# Altium schematic symbol library Regulator_Linear.SchLib: 1620 symbols (part 2 of 16)
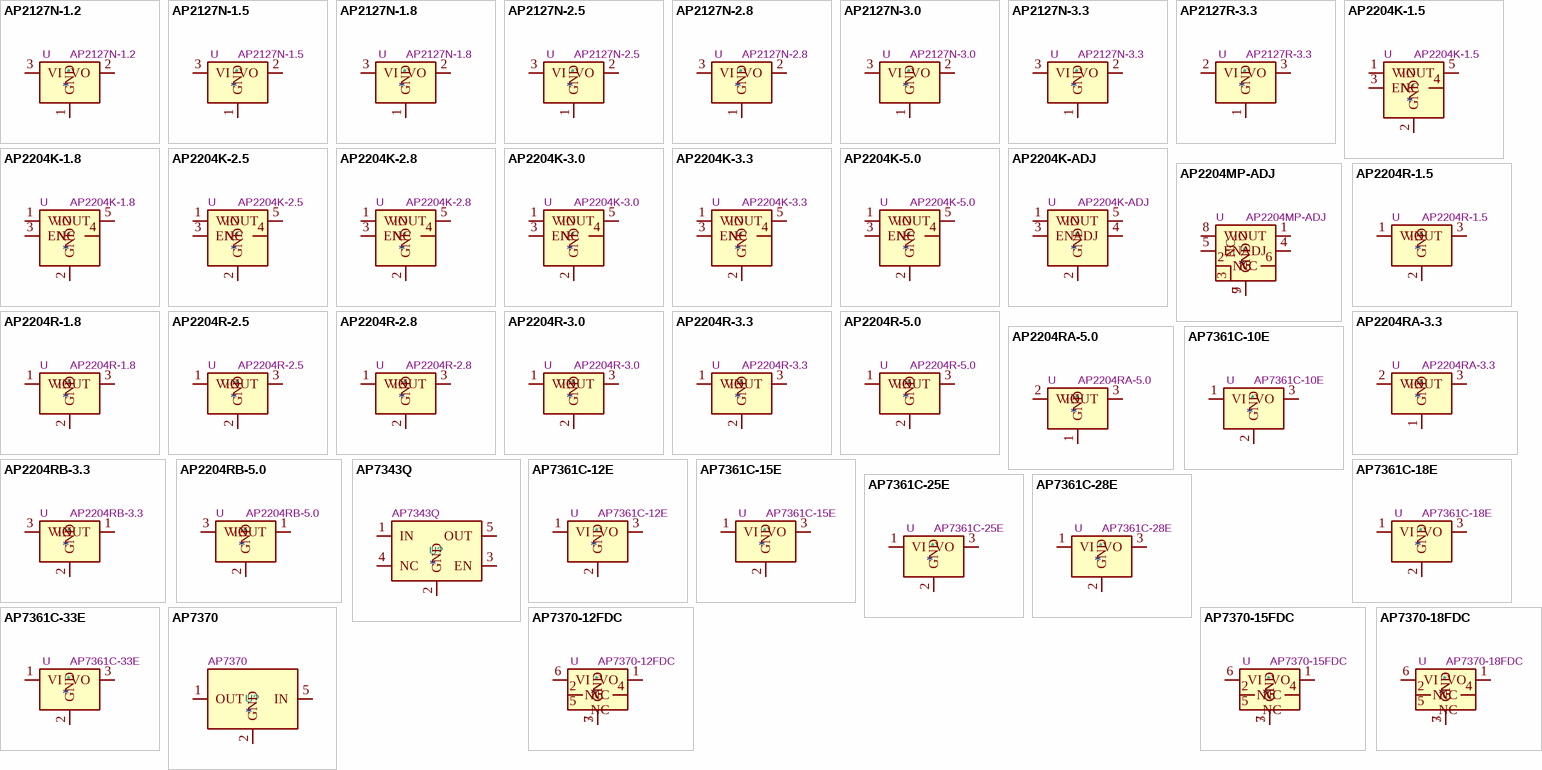
[diagram p41: symbols AP2127N-1.2 to AP7370-18FDC]

## AP2204R-5.0
designator *  value AP2204R-5.0  Reference: U
150mA low dropout linear regulator, wide input voltage range, 5.0V fixed positive output, SOT-89-3 package; ki_keywords: linear regulator ldo fixed positive; ki_fp_filters: SOT?89*; Footprint: Package_TO_SOT_SMD:SOT-89-3; Datasheet: https://www.diodes.com/assets/Datasheets/products_inactive_data/AP2204.pdf; Description_: 150mA low dropout linear regulator, wide input voltage range, 5.0V fixed positive output, SOT-89-3 package
pins: 1 VIN, 2 GND, 3 VOUT

## AP2204RA-3.3
designator *  value AP2204RA-3.3  Reference: U
150mA low dropout linear regulator, wide input voltage range, 3.3V fixed positive output, SOT-89-3 package; ki_keywords: linear regulator ldo fixed positive; ki_fp_filters: SOT?89*; Footprint: Package_TO_SOT_SMD:SOT-89-3; Datasheet: https://www.diodes.com/assets/Datasheets/products_inactive_data/AP2204.pdf; Description_: 150mA low dropout linear regulator, wide input voltage range, 3.3V fixed positive output, SOT-89-3 package
pins: 1 GND, 2 VIN, 3 VOUT

## AP2204RA-5.0
designator *  value AP2204RA-5.0  Reference: U
150mA low dropout linear regulator, wide input voltage range, 5.0V fixed positive output, SOT-89-3 package; ki_keywords: linear regulator ldo fixed positive; ki_fp_filters: SOT?89*; Footprint: Package_TO_SOT_SMD:SOT-89-3; Datasheet: https://www.diodes.com/assets/Datasheets/products_inactive_data/AP2204.pdf; Description_: 150mA low dropout linear regulator, wide input voltage range, 5.0V fixed positive output, SOT-89-3 package
pins: 1 GND, 2 VIN, 3 VOUT

## AP2204RB-3.3
designator *  value AP2204RB-3.3  Reference: U
150mA low dropout linear regulator, wide input voltage range, 3.3V fixed positive output, SOT-89-3 package; ki_keywords: linear regulator ldo fixed positive; ki_fp_filters: SOT?89*; Footprint: Package_TO_SOT_SMD:SOT-89-3; Datasheet: https://www.diodes.com/assets/Datasheets/products_inactive_data/AP2204.pdf; Description_: 150mA low dropout linear regulator, wide input voltage range, 3.3V fixed positive output, SOT-89-3 package
pins: 1 VOUT, 2 GND, 3 VIN

## AP2204RB-5.0
designator *  value AP2204RB-5.0  Reference: U
150mA low dropout linear regulator, wide input voltage range, 5.0V fixed positive output, SOT-89-3 package; ki_keywords: linear regulator ldo fixed positive; ki_fp_filters: SOT?89*; Footprint: Package_TO_SOT_SMD:SOT-89-3; Datasheet: https://www.diodes.com/assets/Datasheets/products_inactive_data/AP2204.pdf; Description_: 150mA low dropout linear regulator, wide input voltage range, 5.0V fixed positive output, SOT-89-3 package
pins: 1 VOUT, 2 GND, 3 VIN

## AP7343Q
designator U?  value AP7343Q
AUTOMOTIVE COMPLIANT 300mA HIGH PSRR LOW NOISE LDO WITH ENABL; Manufacturer: Diodes Inc.; Manufacturer Part Number: AP7343DQ-33W5-7; Description_: Current limited power switch, single channel, SOT-23-5; ki_keywords: Limit USB Active High; ki_fp_filters: SOT?23*; Reference: U; Max Supply Voltage: 5.25V; Max Junction Temperature (Tj): 125°C; Min Input Voltage: 4.3V; Number of Channels: 1; Output Voltage: 3.3V; Voltage Tolerance: 1%; Footprint: Package_TO_SOT_SMD:SOT-23-5; Datasheet: https://www.diodes.com/assets/Datasheets/AP2161.pdf; Category: LDO Voltage Regulators; China RoHS: Compliant; Height - Seated (Max): 1.15mm; Length: 3mm; Lifecycle Status: Production; Number of Circuits: 1; Number of Outputs: 1; Number of Terminals: 5; REACH SVHC: Yes; RoHS: Compliant; Terminal Pitch: 950µm; Width: 1.6mm; Supplier 1: Mouser; Supplier Part Number 1: 621-AP7343DQ-33W5-7; Supplier Packaging 1: Tape & Reel; Supplier Unit Price 1: $0.20; Supplier Location 1: US
footprint SOT-23-5
pins: 1 IN (power), 2 GND, 3 EN, 4 NC, 5 OUT

## AP7361C-10E
designator *  value AP7361C-10E  Reference: U
1A Low Dropout regulator, positive, 1.0V fixed output, SOT-223; ki_keywords: linear regulator ldo fixed positive; ki_fp_filters: SOT?223*; Footprint: Package_TO_SOT_SMD:SOT-223-3_TabPin2; Datasheet: https://www.diodes.com/assets/Datasheets/AP7361C.pdf; Description_: 1A Low Dropout regulator, positive, 1.0V fixed output, SOT-223
pins: 1 VI, 2 GND, 3 VO

## AP7361C-12E
designator *  value AP7361C-12E  Reference: U
1A Low Dropout regulator, positive, 1.2V fixed output, SOT-223; ki_keywords: linear regulator ldo fixed positive; ki_fp_filters: SOT?223*; Footprint: Package_TO_SOT_SMD:SOT-223-3_TabPin2; Datasheet: https://www.diodes.com/assets/Datasheets/AP7361C.pdf; Description_: 1A Low Dropout regulator, positive, 1.2V fixed output, SOT-223
pins: 1 VI, 2 GND, 3 VO

## AP7361C-15E
designator *  value AP7361C-15E  Reference: U
1A Low Dropout regulator, positive, 1.5V fixed output, SOT-223; ki_keywords: linear regulator ldo fixed positive; ki_fp_filters: SOT?223*; Footprint: Package_TO_SOT_SMD:SOT-223-3_TabPin2; Datasheet: https://www.diodes.com/assets/Datasheets/AP7361C.pdf; Description_: 1A Low Dropout regulator, positive, 1.5V fixed output, SOT-223
pins: 1 VI, 2 GND, 3 VO

## AP7361C-18E
designator *  value AP7361C-18E  Reference: U
1A Low Dropout regulator, positive, 1.8V fixed output, SOT-223; ki_keywords: linear regulator ldo fixed positive; ki_fp_filters: SOT?223*; Footprint: Package_TO_SOT_SMD:SOT-223-3_TabPin2; Datasheet: https://www.diodes.com/assets/Datasheets/AP7361C.pdf; Description_: 1A Low Dropout regulator, positive, 1.8V fixed output, SOT-223
pins: 1 VI, 2 GND, 3 VO

## AP7361C-25E
designator *  value AP7361C-25E  Reference: U
1A Low Dropout regulator, positive, 2.5V fixed output, SOT-223; ki_keywords: linear regulator ldo fixed positive; ki_fp_filters: SOT?223*; Footprint: Package_TO_SOT_SMD:SOT-223-3_TabPin2; Datasheet: https://www.diodes.com/assets/Datasheets/AP7361C.pdf; Description_: 1A Low Dropout regulator, positive, 2.5V fixed output, SOT-223
pins: 1 VI, 2 GND, 3 VO

## AP7361C-28E
designator *  value AP7361C-28E  Reference: U
1A Low Dropout regulator, positive, 2.8V fixed output, SOT-223; ki_keywords: linear regulator ldo fixed positive; ki_fp_filters: SOT?223*; Footprint: Package_TO_SOT_SMD:SOT-223-3_TabPin2; Datasheet: https://www.diodes.com/assets/Datasheets/AP7361C.pdf; Description_: 1A Low Dropout regulator, positive, 2.8V fixed output, SOT-223
pins: 1 VI, 2 GND, 3 VO

## AP7361C-33E
designator *  value AP7361C-33E  Reference: U
1A Low Dropout regulator, positive, 3.3V fixed output, SOT-223; ki_keywords: linear regulator ldo fixed positive; ki_fp_filters: SOT?223*; Footprint: Package_TO_SOT_SMD:SOT-223-3_TabPin2; Datasheet: https://www.diodes.com/assets/Datasheets/AP7361C.pdf; Description_: 1A Low Dropout regulator, positive, 3.3V fixed output, SOT-223
pins: 1 VI, 2 GND, 3 VO

## AP7370
designator U?  value AP7370
Fixed LDO Voltage Regulator, 3.2V to 18V in, 500mV Drop, 3.3V out, 300mA out, SOT-89-3; Manufacturer: Diodes Inc.; Manufacturer Part Number: AP7370-33Y-13-EVM; Description_: Current limited power switch, single channel, SOT-23-5; ki_keywords: Limit USB Active High; ki_fp_filters: SOT?23*; Reference: U; Footprint: Package_TO_SOT_SMD:SOT-23-5; Datasheet: https://www.diodes.com/assets/Datasheets/AP2161.pdf; Category: Uncategorized; Supplier 1: Mouser; Supplier Part Number 1: 621-AP737033Y13EVM; Supplier Unit Price 1: $57.49; Supplier Location 1: US
footprint SOT-89-3
pins: 1 OUT, 2 GND, 5 IN

## AP7370-12FDC
designator *  value AP7370-12FDC  Reference: U
200mA Low-Dropout Linear Regulator, 1.2V fixed output, DFN-6; ki_keywords: linear regulator ldo fixed positive; ki_fp_filters: DFN*2x2mm*P0.65mm*; Footprint: Package_DFN_QFN:DFN-6-1EP_2x2mm_P0.65mm_EP1.01x1.7mm; Datasheet: https://www.diodes.com/assets/Datasheets/AP7370.pdf; Description_: 200mA Low-Dropout Linear Regulator, 1.2V fixed output, DFN-6
pins: 1 VO, 2 NC, 3 GND, 4 NC, 5 NC, 6 VI, 7 GND

## AP7370-15FDC
designator *  value AP7370-15FDC  Reference: U
200mA Low-Dropout Linear Regulator, 1.5V fixed output, DFN-6; ki_keywords: linear regulator ldo fixed positive; ki_fp_filters: DFN*2x2mm*P0.65mm*; Footprint: Package_DFN_QFN:DFN-6-1EP_2x2mm_P0.65mm_EP1.01x1.7mm; Datasheet: https://www.diodes.com/assets/Datasheets/AP7370.pdf; Description_: 200mA Low-Dropout Linear Regulator, 1.5V fixed output, DFN-6
pins: 1 VO, 2 NC, 3 GND, 4 NC, 5 NC, 6 VI, 7 GND

## AP7370-18FDC
designator *  value AP7370-18FDC  Reference: U
200mA Low-Dropout Linear Regulator, 1.8V fixed output, DFN-6; ki_keywords: linear regulator ldo fixed positive; ki_fp_filters: DFN*2x2mm*P0.65mm*; Footprint: Package_DFN_QFN:DFN-6-1EP_2x2mm_P0.65mm_EP1.01x1.7mm; Datasheet: https://www.diodes.com/assets/Datasheets/AP7370.pdf; Description_: 200mA Low-Dropout Linear Regulator, 1.8V fixed output, DFN-6
pins: 1 VO, 2 NC, 3 GND, 4 NC, 5 NC, 6 VI, 7 GND

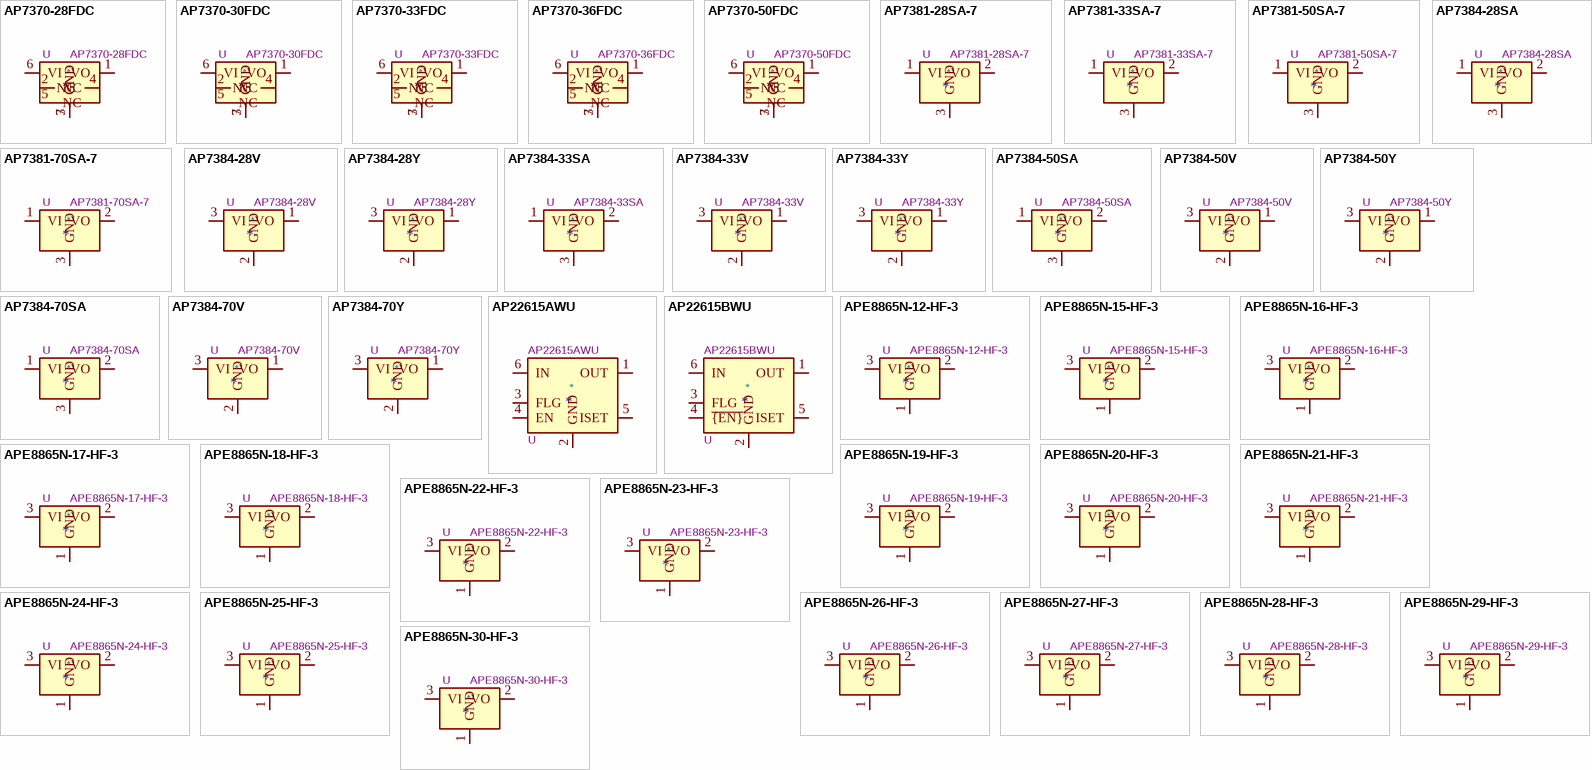
[diagram p3: symbols AP7370-28FDC to APE8865N-30-HF-3]

## AP7370-28FDC
designator *  value AP7370-28FDC  Reference: U
350mA Low-Dropout Linear Regulator, 2.8V fixed output, DFN-6; ki_keywords: linear regulator ldo fixed positive; ki_fp_filters: DFN*2x2mm*P0.65mm*; Footprint: Package_DFN_QFN:DFN-6-1EP_2x2mm_P0.65mm_EP1.01x1.7mm; Datasheet: https://www.diodes.com/assets/Datasheets/AP7370.pdf; Description_: 350mA Low-Dropout Linear Regulator, 2.8V fixed output, DFN-6
pins: 1 VO, 2 NC, 3 GND, 4 NC, 5 NC, 6 VI, 7 GND

## AP7370-30FDC
designator *  value AP7370-30FDC  Reference: U
350mA Low-Dropout Linear Regulator, 3.0V fixed output, DFN-6; ki_keywords: linear regulator ldo fixed positive; ki_fp_filters: DFN*2x2mm*P0.65mm*; Footprint: Package_DFN_QFN:DFN-6-1EP_2x2mm_P0.65mm_EP1.01x1.7mm; Datasheet: https://www.diodes.com/assets/Datasheets/AP7370.pdf; Description_: 350mA Low-Dropout Linear Regulator, 3.0V fixed output, DFN-6
pins: 1 VO, 2 NC, 3 GND, 4 NC, 5 NC, 6 VI, 7 GND

## AP7370-33FDC
designator *  value AP7370-33FDC  Reference: U
350mA Low-Dropout Linear Regulator, 3.3V fixed output, DFN-6; ki_keywords: linear regulator ldo fixed positive; ki_fp_filters: DFN*2x2mm*P0.65mm*; Footprint: Package_DFN_QFN:DFN-6-1EP_2x2mm_P0.65mm_EP1.01x1.7mm; Datasheet: https://www.diodes.com/assets/Datasheets/AP7370.pdf; Description_: 350mA Low-Dropout Linear Regulator, 3.3V fixed output, DFN-6
pins: 1 VO, 2 NC, 3 GND, 4 NC, 5 NC, 6 VI, 7 GND

## AP7370-36FDC
designator *  value AP7370-36FDC  Reference: U
350mA Low-Dropout Linear Regulator, 3.6V fixed output, DFN-6; ki_keywords: linear regulator ldo fixed positive; ki_fp_filters: DFN*2x2mm*P0.65mm*; Footprint: Package_DFN_QFN:DFN-6-1EP_2x2mm_P0.65mm_EP1.01x1.7mm; Datasheet: https://www.diodes.com/assets/Datasheets/AP7370.pdf; Description_: 350mA Low-Dropout Linear Regulator, 3.6V fixed output, DFN-6
pins: 1 VO, 2 NC, 3 GND, 4 NC, 5 NC, 6 VI, 7 GND

## AP7370-50FDC
designator *  value AP7370-50FDC  Reference: U
350mA Low-Dropout Linear Regulator, 5.0V fixed output, DFN-6; ki_keywords: linear regulator ldo fixed positive; ki_fp_filters: DFN*2x2mm*P0.65mm*; Footprint: Package_DFN_QFN:DFN-6-1EP_2x2mm_P0.65mm_EP1.01x1.7mm; Datasheet: https://www.diodes.com/assets/Datasheets/AP7370.pdf; Description_: 350mA Low-Dropout Linear Regulator, 5.0V fixed output, DFN-6
pins: 1 VO, 2 NC, 3 GND, 4 NC, 5 NC, 6 VI, 7 GND

## AP7381-28SA-7
designator *  value AP7381-28SA-7  Reference: U
150mA Low Dropout Voltage Regulator, Fixed Output 2.8V, Wide Input Voltage Range 40V, SOT-23; ki_keywords: Diodes ldo nrnd; ki_fp_filters: SOT?23*; Footprint: Package_TO_SOT_SMD:SOT-23; Datasheet: https://www.diodes.com/assets/Datasheets/AP7381.pdf; Description_: 150mA Low Dropout Voltage Regulator, Fixed Output 2.8V, Wide Input Voltage Range 40V, SOT-23
pins: 1 VI, 2 VO, 3 GND

## AP7381-33SA-7
designator *  value AP7381-33SA-7  Reference: U
150mA Low Dropout Voltage Regulator, Fixed Output 3.3V, Wide Input Voltage Range 40V, SOT-23; ki_keywords: Diodes ldo; ki_fp_filters: SOT?23*; Footprint: Package_TO_SOT_SMD:SOT-23; Datasheet: https://www.diodes.com/assets/Datasheets/AP7381.pdf; Description_: 150mA Low Dropout Voltage Regulator, Fixed Output 3.3V, Wide Input Voltage Range 40V, SOT-23
pins: 1 VI, 2 VO, 3 GND

## AP7381-50SA-7
designator *  value AP7381-50SA-7  Reference: U
150mA Low Dropout Voltage Regulator, Fixed Output 5.0V, Wide Input Voltage Range 40V, SOT-23; ki_keywords: Diodes ldo; ki_fp_filters: SOT?23*; Footprint: Package_TO_SOT_SMD:SOT-23; Datasheet: https://www.diodes.com/assets/Datasheets/AP7381.pdf; Description_: 150mA Low Dropout Voltage Regulator, Fixed Output 5.0V, Wide Input Voltage Range 40V, SOT-23
pins: 1 VI, 2 VO, 3 GND

## AP7381-70SA-7
designator *  value AP7381-70SA-7  Reference: U
150mA Low Dropout Voltage Regulator, Fixed Output 7.0V, Wide Input Voltage Range 40V, SOT-23; ki_keywords: Diodes ldo nrnd; ki_fp_filters: SOT?23*; Footprint: Package_TO_SOT_SMD:SOT-23; Datasheet: https://www.diodes.com/assets/Datasheets/AP7381.pdf; Description_: 150mA Low Dropout Voltage Regulator, Fixed Output 7.0V, Wide Input Voltage Range 40V, SOT-23
pins: 1 VI, 2 VO, 3 GND

## AP7384-28SA
designator *  value AP7384-28SA  Reference: U
50mA Low Dropout Voltage Regulator, Fixed Output 2.8V, Wide Input Voltage Range 40V, SOT-23; ki_keywords: 50mA LDO Regulator Fixed Positive; ki_fp_filters: SOT?23*; Footprint: Package_TO_SOT_SMD:SOT-23; Datasheet: https://www.diodes.com/assets/Datasheets/AP7384.pdf; Description_: 50mA Low Dropout Voltage Regulator, Fixed Output 2.8V, Wide Input Voltage Range 40V, SOT-23
pins: 1 VI, 2 VO, 3 GND

## AP7384-28V
designator *  value AP7384-28V  Reference: U
50mA Low Dropout Voltage Regulator, Fixed Output 2.8V, Wide Input Voltage Range 40V, TO-92; ki_keywords: 50mA LDO Regulator Fixed Positive; ki_fp_filters: TO?92*; Footprint: Package_TO_SOT_THT:TO-92_Inline_Wide; Datasheet: https://www.diodes.com/assets/Datasheets/AP7384.pdf; Description_: 50mA Low Dropout Voltage Regulator, Fixed Output 2.8V, Wide Input Voltage Range 40V, TO-92
pins: 1 VO, 2 GND, 3 VI

## AP7384-28Y
designator *  value AP7384-28Y  Reference: U
50mA Low Dropout Voltage Regulator, Fixed Output 2.8V, Wide Input Voltage Range 40V, SOT-89-3; ki_keywords: 50mA LDO Regulator Fixed Positive; ki_fp_filters: SOT?89?3*; Footprint: Package_TO_SOT_SMD:SOT-89-3; Datasheet: https://www.diodes.com/assets/Datasheets/AP7384.pdf; Description_: 50mA Low Dropout Voltage Regulator, Fixed Output 2.8V, Wide Input Voltage Range 40V, SOT-89-3
pins: 1 VO, 2 GND, 3 VI

## AP7384-33SA
designator *  value AP7384-33SA  Reference: U
50mA Low Dropout Voltage Regulator, Fixed Output 3.3V, Wide Input Voltage Range 40V, SOT-23; ki_keywords: 50mA LDO Regulator Fixed Positive; ki_fp_filters: SOT?23*; Footprint: Package_TO_SOT_SMD:SOT-23; Datasheet: https://www.diodes.com/assets/Datasheets/AP7384.pdf; Description_: 50mA Low Dropout Voltage Regulator, Fixed Output 3.3V, Wide Input Voltage Range 40V, SOT-23
pins: 1 VI, 2 VO, 3 GND

## AP7384-33V
designator *  value AP7384-33V  Reference: U
50mA Low Dropout Voltage Regulator, Fixed Output 3.3V, Wide Input Voltage Range 40V, TO-92; ki_keywords: 50mA LDO Regulator Fixed Positive; ki_fp_filters: TO?92*; Footprint: Package_TO_SOT_THT:TO-92_Inline_Wide; Datasheet: https://www.diodes.com/assets/Datasheets/AP7384.pdf; Description_: 50mA Low Dropout Voltage Regulator, Fixed Output 3.3V, Wide Input Voltage Range 40V, TO-92
pins: 1 VO, 2 GND, 3 VI

## AP7384-33Y
designator *  value AP7384-33Y  Reference: U
50mA Low Dropout Voltage Regulator, Fixed Output 3.3V, Wide Input Voltage Range 40V, SOT-89-3; ki_keywords: 50mA LDO Regulator Fixed Positive; ki_fp_filters: SOT?89?3*; Footprint: Package_TO_SOT_SMD:SOT-89-3; Datasheet: https://www.diodes.com/assets/Datasheets/AP7384.pdf; Description_: 50mA Low Dropout Voltage Regulator, Fixed Output 3.3V, Wide Input Voltage Range 40V, SOT-89-3
pins: 1 VO, 2 GND, 3 VI

## AP7384-50SA
designator *  value AP7384-50SA  Reference: U
50mA Low Dropout Voltage Regulator, Fixed Output 5V, Wide Input Voltage Range 40V, SOT-23; ki_keywords: 50mA LDO Regulator Fixed Positive; ki_fp_filters: SOT?23*; Footprint: Package_TO_SOT_SMD:SOT-23; Datasheet: https://www.diodes.com/assets/Datasheets/AP7384.pdf; Description_: 50mA Low Dropout Voltage Regulator, Fixed Output 5V, Wide Input Voltage Range 40V, SOT-23
pins: 1 VI, 2 VO, 3 GND

## AP7384-50V
designator *  value AP7384-50V  Reference: U
50mA Low Dropout Voltage Regulator, Fixed Output 5V, Wide Input Voltage Range 40V, TO-92; ki_keywords: 50mA LDO Regulator Fixed Positive; ki_fp_filters: TO?92*; Footprint: Package_TO_SOT_THT:TO-92_Inline_Wide; Datasheet: https://www.diodes.com/assets/Datasheets/AP7384.pdf; Description_: 50mA Low Dropout Voltage Regulator, Fixed Output 5V, Wide Input Voltage Range 40V, TO-92
pins: 1 VO, 2 GND, 3 VI

## AP7384-50Y
designator *  value AP7384-50Y  Reference: U
50mA Low Dropout Voltage Regulator, Fixed Output 5V, Wide Input Voltage Range 40V, SOT-89-3; ki_keywords: 50mA LDO Regulator Fixed Positive; ki_fp_filters: SOT?89?3*; Footprint: Package_TO_SOT_SMD:SOT-89-3; Datasheet: https://www.diodes.com/assets/Datasheets/AP7384.pdf; Description_: 50mA Low Dropout Voltage Regulator, Fixed Output 5V, Wide Input Voltage Range 40V, SOT-89-3
pins: 1 VO, 2 GND, 3 VI

## AP7384-70SA
designator *  value AP7384-70SA  Reference: U
50mA Low Dropout Voltage Regulator, Fixed Output 7V, Wide Input Voltage Range 40V, SOT-23; ki_keywords: 50mA LDO Regulator Fixed Positive; ki_fp_filters: SOT?23*; Footprint: Package_TO_SOT_SMD:SOT-23; Datasheet: https://www.diodes.com/assets/Datasheets/AP7384.pdf; Description_: 50mA Low Dropout Voltage Regulator, Fixed Output 7V, Wide Input Voltage Range 40V, SOT-23
pins: 1 VI, 2 VO, 3 GND

## AP7384-70V
designator *  value AP7384-70V  Reference: U
50mA Low Dropout Voltage Regulator, Fixed Output 7V, Wide Input Voltage Range 40V, TO-92; ki_keywords: 50mA LDO Regulator Fixed Positive; ki_fp_filters: TO?92*; Footprint: Package_TO_SOT_THT:TO-92_Inline_Wide; Datasheet: https://www.diodes.com/assets/Datasheets/AP7384.pdf; Description_: 50mA Low Dropout Voltage Regulator, Fixed Output 7V, Wide Input Voltage Range 40V, TO-92
pins: 1 VO, 2 GND, 3 VI

## AP7384-70Y
designator *  value AP7384-70Y  Reference: U
50mA Low Dropout Voltage Regulator, Fixed Output 7V, Wide Input Voltage Range 40V, SOT-89-3; ki_keywords: 50mA LDO Regulator Fixed Positive; ki_fp_filters: SOT?89?3*; Footprint: Package_TO_SOT_SMD:SOT-89-3; Datasheet: https://www.diodes.com/assets/Datasheets/AP7384.pdf; Description_: 50mA Low Dropout Voltage Regulator, Fixed Output 7V, Wide Input Voltage Range 40V, SOT-89-3
pins: 1 VO, 2 GND, 3 VI

## AP22615AWU
designator *  value AP22615AWU  Reference: U
Current limited power switch, single channel, 3.0V to 5.5V, 3A, SOT-23-6; ki_keywords: Limit USB active-high load-switch; ki_fp_filters: SOT?23*; Footprint: Package_TO_SOT_SMD:SOT-23-6; Datasheet: https://www.diodes.com/datasheet/download/AP22815_615.pdf; Description_: Current limited power switch, single channel, 3.0V to 5.5V, 3A, SOT-23-6
pins: 1 OUT, 2 GND, 3 FLG, 4 EN, 5 ISET, 6 IN

## AP22615BWU
designator *  value AP22615BWU  Reference: U
Current limited power switch, single channel, 3.0V to 5.5V, 3A, SOT-23-6; ki_keywords: Limit USB active-low load-switch; ki_fp_filters: SOT?23*; Footprint: Package_TO_SOT_SMD:SOT-23-6; Datasheet: https://www.diodes.com/datasheet/download/AP22815_615.pdf; Description_: Current limited power switch, single channel, 3.0V to 5.5V, 3A, SOT-23-6
pins: 1 OUT, 2 GND, 3 FLG, 4 ~{{EN}}, 5 ISET, 6 IN

## APE8865N-12-HF-3
designator *  value APE8865N-12-HF-3  Reference: U
300mA Low Dropout Voltage Regulator, Fixed Output 1.2V, SOT-23; ki_keywords: 300mA LDO Regulator Fixed Positive; ki_fp_filters: SOT?23*; Footprint: Package_TO_SOT_SMD:SOT-23; Datasheet: http://www.tme.eu/fr/Document/ced3461ed31ea70a3c416fb648e0cde7/APE8865-3.pdf; Description_: 300mA Low Dropout Voltage Regulator, Fixed Output 1.2V, SOT-23
pins: 1 GND, 2 VO, 3 VI

## APE8865N-15-HF-3
designator *  value APE8865N-15-HF-3  Reference: U
300mA Low Dropout Voltage Regulator, Fixed Output 1.5V, SOT-23; ki_keywords: 300mA LDO Regulator Fixed Positive; ki_fp_filters: SOT?23*; Footprint: Package_TO_SOT_SMD:SOT-23; Datasheet: http://www.tme.eu/fr/Document/ced3461ed31ea70a3c416fb648e0cde7/APE8865-3.pdf; Description_: 300mA Low Dropout Voltage Regulator, Fixed Output 1.5V, SOT-23
pins: 1 GND, 2 VO, 3 VI

## APE8865N-16-HF-3
designator *  value APE8865N-16-HF-3  Reference: U
300mA Low Dropout Voltage Regulator, Fixed Output 1.6V, SOT-23; ki_keywords: 300mA LDO Regulator Fixed Positive; ki_fp_filters: SOT?23*; Footprint: Package_TO_SOT_SMD:SOT-23; Datasheet: http://www.tme.eu/fr/Document/ced3461ed31ea70a3c416fb648e0cde7/APE8865-3.pdf; Description_: 300mA Low Dropout Voltage Regulator, Fixed Output 1.6V, SOT-23
pins: 1 GND, 2 VO, 3 VI

## APE8865N-17-HF-3
designator *  value APE8865N-17-HF-3  Reference: U
300mA Low Dropout Voltage Regulator, Fixed Output 1.7V, SOT-23; ki_keywords: 300mA LDO Regulator Fixed Positive; ki_fp_filters: SOT?23*; Footprint: Package_TO_SOT_SMD:SOT-23; Datasheet: http://www.tme.eu/fr/Document/ced3461ed31ea70a3c416fb648e0cde7/APE8865-3.pdf; Description_: 300mA Low Dropout Voltage Regulator, Fixed Output 1.7V, SOT-23
pins: 1 GND, 2 VO, 3 VI

## APE8865N-18-HF-3
designator *  value APE8865N-18-HF-3  Reference: U
300mA Low Dropout Voltage Regulator, Fixed Output 1.8V, SOT-23; ki_keywords: 300mA LDO Regulator Fixed Positive; ki_fp_filters: SOT?23*; Footprint: Package_TO_SOT_SMD:SOT-23; Datasheet: http://www.tme.eu/fr/Document/ced3461ed31ea70a3c416fb648e0cde7/APE8865-3.pdf; Description_: 300mA Low Dropout Voltage Regulator, Fixed Output 1.8V, SOT-23
pins: 1 GND, 2 VO, 3 VI

## APE8865N-19-HF-3
designator *  value APE8865N-19-HF-3  Reference: U
300mA Low Dropout Voltage Regulator, Fixed Output 1.9V, SOT-23; ki_keywords: 300mA LDO Regulator Fixed Positive; ki_fp_filters: SOT?23*; Footprint: Package_TO_SOT_SMD:SOT-23; Datasheet: http://www.tme.eu/fr/Document/ced3461ed31ea70a3c416fb648e0cde7/APE8865-3.pdf; Description_: 300mA Low Dropout Voltage Regulator, Fixed Output 1.9V, SOT-23
pins: 1 GND, 2 VO, 3 VI

## APE8865N-20-HF-3
designator *  value APE8865N-20-HF-3  Reference: U
300mA Low Dropout Voltage Regulator, Fixed Output 2.0V, SOT-23; ki_keywords: 300mA LDO Regulator Fixed Positive; ki_fp_filters: SOT?23*; Footprint: Package_TO_SOT_SMD:SOT-23; Datasheet: http://www.tme.eu/fr/Document/ced3461ed31ea70a3c416fb648e0cde7/APE8865-3.pdf; Description_: 300mA Low Dropout Voltage Regulator, Fixed Output 2.0V, SOT-23
pins: 1 GND, 2 VO, 3 VI

## APE8865N-21-HF-3
designator *  value APE8865N-21-HF-3  Reference: U
300mA Low Dropout Voltage Regulator, Fixed Output 2.1V, SOT-23; ki_keywords: 300mA LDO Regulator Fixed Positive; ki_fp_filters: SOT?23*; Footprint: Package_TO_SOT_SMD:SOT-23; Datasheet: http://www.tme.eu/fr/Document/ced3461ed31ea70a3c416fb648e0cde7/APE8865-3.pdf; Description_: 300mA Low Dropout Voltage Regulator, Fixed Output 2.1V, SOT-23
pins: 1 GND, 2 VO, 3 VI

## APE8865N-22-HF-3
designator *  value APE8865N-22-HF-3  Reference: U
300mA Low Dropout Voltage Regulator, Fixed Output 2.2V, SOT-23; ki_keywords: 300mA LDO Regulator Fixed Positive; ki_fp_filters: SOT?23*; Footprint: Package_TO_SOT_SMD:SOT-23; Datasheet: http://www.tme.eu/fr/Document/ced3461ed31ea70a3c416fb648e0cde7/APE8865-3.pdf; Description_: 300mA Low Dropout Voltage Regulator, Fixed Output 2.2V, SOT-23
pins: 1 GND, 2 VO, 3 VI

## APE8865N-23-HF-3
designator *  value APE8865N-23-HF-3  Reference: U
300mA Low Dropout Voltage Regulator, Fixed Output 2.3V, SOT-23; ki_keywords: 300mA LDO Regulator Fixed Positive; ki_fp_filters: SOT?23*; Footprint: Package_TO_SOT_SMD:SOT-23; Datasheet: http://www.tme.eu/fr/Document/ced3461ed31ea70a3c416fb648e0cde7/APE8865-3.pdf; Description_: 300mA Low Dropout Voltage Regulator, Fixed Output 2.3V, SOT-23
pins: 1 GND, 2 VO, 3 VI

## APE8865N-24-HF-3
designator *  value APE8865N-24-HF-3  Reference: U
300mA Low Dropout Voltage Regulator, Fixed Output 2.4V, SOT-23; ki_keywords: 300mA LDO Regulator Fixed Positive; ki_fp_filters: SOT?23*; Footprint: Package_TO_SOT_SMD:SOT-23; Datasheet: http://www.tme.eu/fr/Document/ced3461ed31ea70a3c416fb648e0cde7/APE8865-3.pdf; Description_: 300mA Low Dropout Voltage Regulator, Fixed Output 2.4V, SOT-23
pins: 1 GND, 2 VO, 3 VI

## APE8865N-25-HF-3
designator *  value APE8865N-25-HF-3  Reference: U
300mA Low Dropout Voltage Regulator, Fixed Output 2.5V, SOT-23; ki_keywords: 300mA LDO Regulator Fixed Positive; ki_fp_filters: SOT?23*; Footprint: Package_TO_SOT_SMD:SOT-23; Datasheet: http://www.tme.eu/fr/Document/ced3461ed31ea70a3c416fb648e0cde7/APE8865-3.pdf; Description_: 300mA Low Dropout Voltage Regulator, Fixed Output 2.5V, SOT-23
pins: 1 GND, 2 VO, 3 VI

## APE8865N-26-HF-3
designator *  value APE8865N-26-HF-3  Reference: U
300mA Low Dropout Voltage Regulator, Fixed Output 2.6V, SOT-23; ki_keywords: 300mA LDO Regulator Fixed Positive; ki_fp_filters: SOT?23*; Footprint: Package_TO_SOT_SMD:SOT-23; Datasheet: http://www.tme.eu/fr/Document/ced3461ed31ea70a3c416fb648e0cde7/APE8865-3.pdf; Description_: 300mA Low Dropout Voltage Regulator, Fixed Output 2.6V, SOT-23
pins: 1 GND, 2 VO, 3 VI

## APE8865N-27-HF-3
designator *  value APE8865N-27-HF-3  Reference: U
300mA Low Dropout Voltage Regulator, Fixed Output 2.7V, SOT-23; ki_keywords: 300mA LDO Regulator Fixed Positive; ki_fp_filters: SOT?23*; Footprint: Package_TO_SOT_SMD:SOT-23; Datasheet: http://www.tme.eu/fr/Document/ced3461ed31ea70a3c416fb648e0cde7/APE8865-3.pdf; Description_: 300mA Low Dropout Voltage Regulator, Fixed Output 2.7V, SOT-23
pins: 1 GND, 2 VO, 3 VI

## APE8865N-28-HF-3
designator *  value APE8865N-28-HF-3  Reference: U
300mA Low Dropout Voltage Regulator, Fixed Output 2.8V, SOT-23; ki_keywords: 300mA LDO Regulator Fixed Positive; ki_fp_filters: SOT?23*; Footprint: Package_TO_SOT_SMD:SOT-23; Datasheet: http://www.tme.eu/fr/Document/ced3461ed31ea70a3c416fb648e0cde7/APE8865-3.pdf; Description_: 300mA Low Dropout Voltage Regulator, Fixed Output 2.8V, SOT-23
pins: 1 GND, 2 VO, 3 VI

## APE8865N-29-HF-3
designator *  value APE8865N-29-HF-3  Reference: U
300mA Low Dropout Voltage Regulator, Fixed Output 2.9V, SOT-23; ki_keywords: 300mA LDO Regulator Fixed Positive; ki_fp_filters: SOT?23*; Footprint: Package_TO_SOT_SMD:SOT-23; Datasheet: http://www.tme.eu/fr/Document/ced3461ed31ea70a3c416fb648e0cde7/APE8865-3.pdf; Description_: 300mA Low Dropout Voltage Regulator, Fixed Output 2.9V, SOT-23
pins: 1 GND, 2 VO, 3 VI

## APE8865N-30-HF-3
designator *  value APE8865N-30-HF-3  Reference: U
300mA Low Dropout Voltage Regulator, Fixed Output 3.0V, SOT-23; ki_keywords: 300mA LDO Regulator Fixed Positive; ki_fp_filters: SOT?23*; Footprint: Package_TO_SOT_SMD:SOT-23; Datasheet: http://www.tme.eu/fr/Document/ced3461ed31ea70a3c416fb648e0cde7/APE8865-3.pdf; Description_: 300mA Low Dropout Voltage Regulator, Fixed Output 3.0V, SOT-23
pins: 1 GND, 2 VO, 3 VI

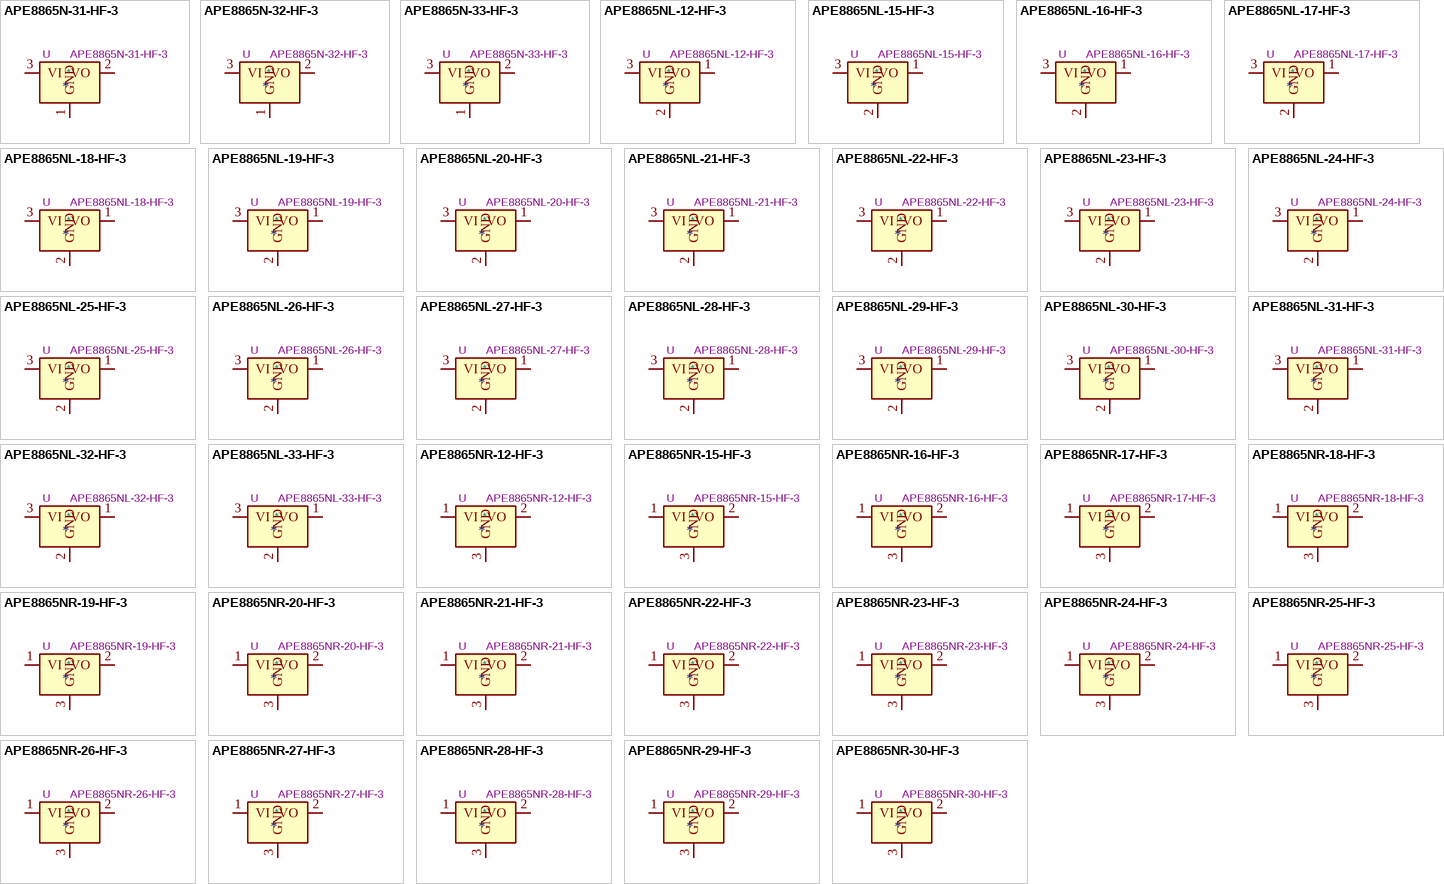
[diagram p4: symbols APE8865N-31-HF-3 to APE8865NR-30-HF-3]

## APE8865N-31-HF-3
designator *  value APE8865N-31-HF-3  Reference: U
300mA Low Dropout Voltage Regulator, Fixed Output 3.1V, SOT-23; ki_keywords: 300mA LDO Regulator Fixed Positive; ki_fp_filters: SOT?23*; Footprint: Package_TO_SOT_SMD:SOT-23; Datasheet: http://www.tme.eu/fr/Document/ced3461ed31ea70a3c416fb648e0cde7/APE8865-3.pdf; Description_: 300mA Low Dropout Voltage Regulator, Fixed Output 3.1V, SOT-23
pins: 1 GND, 2 VO, 3 VI

## APE8865N-32-HF-3
designator *  value APE8865N-32-HF-3  Reference: U
300mA Low Dropout Voltage Regulator, Fixed Output 3.2V, SOT-23; ki_keywords: 300mA LDO Regulator Fixed Positive; ki_fp_filters: SOT?23*; Footprint: Package_TO_SOT_SMD:SOT-23; Datasheet: http://www.tme.eu/fr/Document/ced3461ed31ea70a3c416fb648e0cde7/APE8865-3.pdf; Description_: 300mA Low Dropout Voltage Regulator, Fixed Output 3.2V, SOT-23
pins: 1 GND, 2 VO, 3 VI

## APE8865N-33-HF-3
designator *  value APE8865N-33-HF-3  Reference: U
300mA Low Dropout Voltage Regulator, Fixed Output 3.3V, SOT-23; ki_keywords: 300mA LDO Regulator Fixed Positive; ki_fp_filters: SOT?23*; Footprint: Package_TO_SOT_SMD:SOT-23; Datasheet: http://www.tme.eu/fr/Document/ced3461ed31ea70a3c416fb648e0cde7/APE8865-3.pdf; Description_: 300mA Low Dropout Voltage Regulator, Fixed Output 3.3V, SOT-23
pins: 1 GND, 2 VO, 3 VI

## APE8865NL-12-HF-3
designator *  value APE8865NL-12-HF-3  Reference: U
300mA Low Dropout Voltage Regulator, Fixed Output 1.2V, SOT-23; ki_keywords: 300mA LDO Regulator Fixed Positive; ki_fp_filters: SOT?23*; Footprint: Package_TO_SOT_SMD:SOT-23; Datasheet: http://www.tme.eu/fr/Document/ced3461ed31ea70a3c416fb648e0cde7/APE8865-3.pdf; Description_: 300mA Low Dropout Voltage Regulator, Fixed Output 1.2V, SOT-23
pins: 1 VO, 2 GND, 3 VI

## APE8865NL-15-HF-3
designator *  value APE8865NL-15-HF-3  Reference: U
300mA Low Dropout Voltage Regulator, Fixed Output 1.5V, SOT-23; ki_keywords: 300mA LDO Regulator Fixed Positive; ki_fp_filters: SOT?23*; Footprint: Package_TO_SOT_SMD:SOT-23; Datasheet: http://www.tme.eu/fr/Document/ced3461ed31ea70a3c416fb648e0cde7/APE8865-3.pdf; Description_: 300mA Low Dropout Voltage Regulator, Fixed Output 1.5V, SOT-23
pins: 1 VO, 2 GND, 3 VI

## APE8865NL-16-HF-3
designator *  value APE8865NL-16-HF-3  Reference: U
300mA Low Dropout Voltage Regulator, Fixed Output 1.6V, SOT-23; ki_keywords: 300mA LDO Regulator Fixed Positive; ki_fp_filters: SOT?23*; Footprint: Package_TO_SOT_SMD:SOT-23; Datasheet: http://www.tme.eu/fr/Document/ced3461ed31ea70a3c416fb648e0cde7/APE8865-3.pdf; Description_: 300mA Low Dropout Voltage Regulator, Fixed Output 1.6V, SOT-23
pins: 1 VO, 2 GND, 3 VI

## APE8865NL-17-HF-3
designator *  value APE8865NL-17-HF-3  Reference: U
300mA Low Dropout Voltage Regulator, Fixed Output 1.7V, SOT-23; ki_keywords: 300mA LDO Regulator Fixed Positive; ki_fp_filters: SOT?23*; Footprint: Package_TO_SOT_SMD:SOT-23; Datasheet: http://www.tme.eu/fr/Document/ced3461ed31ea70a3c416fb648e0cde7/APE8865-3.pdf; Description_: 300mA Low Dropout Voltage Regulator, Fixed Output 1.7V, SOT-23
pins: 1 VO, 2 GND, 3 VI

## APE8865NL-18-HF-3
designator *  value APE8865NL-18-HF-3  Reference: U
300mA Low Dropout Voltage Regulator, Fixed Output 1.8V, SOT-23; ki_keywords: 300mA LDO Regulator Fixed Positive; ki_fp_filters: SOT?23*; Footprint: Package_TO_SOT_SMD:SOT-23; Datasheet: http://www.tme.eu/fr/Document/ced3461ed31ea70a3c416fb648e0cde7/APE8865-3.pdf; Description_: 300mA Low Dropout Voltage Regulator, Fixed Output 1.8V, SOT-23
pins: 1 VO, 2 GND, 3 VI

## APE8865NL-19-HF-3
designator *  value APE8865NL-19-HF-3  Reference: U
300mA Low Dropout Voltage Regulator, Fixed Output 1.9V, SOT-23; ki_keywords: 300mA LDO Regulator Fixed Positive; ki_fp_filters: SOT?23*; Footprint: Package_TO_SOT_SMD:SOT-23; Datasheet: http://www.tme.eu/fr/Document/ced3461ed31ea70a3c416fb648e0cde7/APE8865-3.pdf; Description_: 300mA Low Dropout Voltage Regulator, Fixed Output 1.9V, SOT-23
pins: 1 VO, 2 GND, 3 VI

## APE8865NL-20-HF-3
designator *  value APE8865NL-20-HF-3  Reference: U
300mA Low Dropout Voltage Regulator, Fixed Output 2.0V, SOT-23; ki_keywords: 300mA LDO Regulator Fixed Positive; ki_fp_filters: SOT?23*; Footprint: Package_TO_SOT_SMD:SOT-23; Datasheet: http://www.tme.eu/fr/Document/ced3461ed31ea70a3c416fb648e0cde7/APE8865-3.pdf; Description_: 300mA Low Dropout Voltage Regulator, Fixed Output 2.0V, SOT-23
pins: 1 VO, 2 GND, 3 VI

## APE8865NL-21-HF-3
designator *  value APE8865NL-21-HF-3  Reference: U
300mA Low Dropout Voltage Regulator, Fixed Output 2.1V, SOT-23; ki_keywords: 300mA LDO Regulator Fixed Positive; ki_fp_filters: SOT?23*; Footprint: Package_TO_SOT_SMD:SOT-23; Datasheet: http://www.tme.eu/fr/Document/ced3461ed31ea70a3c416fb648e0cde7/APE8865-3.pdf; Description_: 300mA Low Dropout Voltage Regulator, Fixed Output 2.1V, SOT-23
pins: 1 VO, 2 GND, 3 VI

## APE8865NL-22-HF-3
designator *  value APE8865NL-22-HF-3  Reference: U
300mA Low Dropout Voltage Regulator, Fixed Output 2.2V, SOT-23; ki_keywords: 300mA LDO Regulator Fixed Positive; ki_fp_filters: SOT?23*; Footprint: Package_TO_SOT_SMD:SOT-23; Datasheet: http://www.tme.eu/fr/Document/ced3461ed31ea70a3c416fb648e0cde7/APE8865-3.pdf; Description_: 300mA Low Dropout Voltage Regulator, Fixed Output 2.2V, SOT-23
pins: 1 VO, 2 GND, 3 VI

## APE8865NL-23-HF-3
designator *  value APE8865NL-23-HF-3  Reference: U
300mA Low Dropout Voltage Regulator, Fixed Output 2.3V, SOT-23; ki_keywords: 300mA LDO Regulator Fixed Positive; ki_fp_filters: SOT?23*; Footprint: Package_TO_SOT_SMD:SOT-23; Datasheet: http://www.tme.eu/fr/Document/ced3461ed31ea70a3c416fb648e0cde7/APE8865-3.pdf; Description_: 300mA Low Dropout Voltage Regulator, Fixed Output 2.3V, SOT-23
pins: 1 VO, 2 GND, 3 VI

## APE8865NL-24-HF-3
designator *  value APE8865NL-24-HF-3  Reference: U
300mA Low Dropout Voltage Regulator, Fixed Output 2.4V, SOT-23; ki_keywords: 300mA LDO Regulator Fixed Positive; ki_fp_filters: SOT?23*; Footprint: Package_TO_SOT_SMD:SOT-23; Datasheet: http://www.tme.eu/fr/Document/ced3461ed31ea70a3c416fb648e0cde7/APE8865-3.pdf; Description_: 300mA Low Dropout Voltage Regulator, Fixed Output 2.4V, SOT-23
pins: 1 VO, 2 GND, 3 VI

## APE8865NL-25-HF-3
designator *  value APE8865NL-25-HF-3  Reference: U
300mA Low Dropout Voltage Regulator, Fixed Output 2.5V, SOT-23; ki_keywords: 300mA LDO Regulator Fixed Positive; ki_fp_filters: SOT?23*; Footprint: Package_TO_SOT_SMD:SOT-23; Datasheet: http://www.tme.eu/fr/Document/ced3461ed31ea70a3c416fb648e0cde7/APE8865-3.pdf; Description_: 300mA Low Dropout Voltage Regulator, Fixed Output 2.5V, SOT-23
pins: 1 VO, 2 GND, 3 VI

## APE8865NL-26-HF-3
designator *  value APE8865NL-26-HF-3  Reference: U
300mA Low Dropout Voltage Regulator, Fixed Output 2.6V, SOT-23; ki_keywords: 300mA LDO Regulator Fixed Positive; ki_fp_filters: SOT?23*; Footprint: Package_TO_SOT_SMD:SOT-23; Datasheet: http://www.tme.eu/fr/Document/ced3461ed31ea70a3c416fb648e0cde7/APE8865-3.pdf; Description_: 300mA Low Dropout Voltage Regulator, Fixed Output 2.6V, SOT-23
pins: 1 VO, 2 GND, 3 VI

## APE8865NL-27-HF-3
designator *  value APE8865NL-27-HF-3  Reference: U
300mA Low Dropout Voltage Regulator, Fixed Output 2.7V, SOT-23; ki_keywords: 300mA LDO Regulator Fixed Positive; ki_fp_filters: SOT?23*; Footprint: Package_TO_SOT_SMD:SOT-23; Datasheet: http://www.tme.eu/fr/Document/ced3461ed31ea70a3c416fb648e0cde7/APE8865-3.pdf; Description_: 300mA Low Dropout Voltage Regulator, Fixed Output 2.7V, SOT-23
pins: 1 VO, 2 GND, 3 VI

## APE8865NL-28-HF-3
designator *  value APE8865NL-28-HF-3  Reference: U
300mA Low Dropout Voltage Regulator, Fixed Output 2.8V, SOT-23; ki_keywords: 300mA LDO Regulator Fixed Positive; ki_fp_filters: SOT?23*; Footprint: Package_TO_SOT_SMD:SOT-23; Datasheet: http://www.tme.eu/fr/Document/ced3461ed31ea70a3c416fb648e0cde7/APE8865-3.pdf; Description_: 300mA Low Dropout Voltage Regulator, Fixed Output 2.8V, SOT-23
pins: 1 VO, 2 GND, 3 VI

## APE8865NL-29-HF-3
designator *  value APE8865NL-29-HF-3  Reference: U
300mA Low Dropout Voltage Regulator, Fixed Output 2.9V, SOT-23; ki_keywords: 300mA LDO Regulator Fixed Positive; ki_fp_filters: SOT?23*; Footprint: Package_TO_SOT_SMD:SOT-23; Datasheet: http://www.tme.eu/fr/Document/ced3461ed31ea70a3c416fb648e0cde7/APE8865-3.pdf; Description_: 300mA Low Dropout Voltage Regulator, Fixed Output 2.9V, SOT-23
pins: 1 VO, 2 GND, 3 VI

## APE8865NL-30-HF-3
designator *  value APE8865NL-30-HF-3  Reference: U
300mA Low Dropout Voltage Regulator, Fixed Output 3.0V, SOT-23; ki_keywords: 300mA LDO Regulator Fixed Positive; ki_fp_filters: SOT?23*; Footprint: Package_TO_SOT_SMD:SOT-23; Datasheet: http://www.tme.eu/fr/Document/ced3461ed31ea70a3c416fb648e0cde7/APE8865-3.pdf; Description_: 300mA Low Dropout Voltage Regulator, Fixed Output 3.0V, SOT-23
pins: 1 VO, 2 GND, 3 VI

## APE8865NL-31-HF-3
designator *  value APE8865NL-31-HF-3  Reference: U
300mA Low Dropout Voltage Regulator, Fixed Output 3.1V, SOT-23; ki_keywords: 300mA LDO Regulator Fixed Positive; ki_fp_filters: SOT?23*; Footprint: Package_TO_SOT_SMD:SOT-23; Datasheet: http://www.tme.eu/fr/Document/ced3461ed31ea70a3c416fb648e0cde7/APE8865-3.pdf; Description_: 300mA Low Dropout Voltage Regulator, Fixed Output 3.1V, SOT-23
pins: 1 VO, 2 GND, 3 VI

## APE8865NL-32-HF-3
designator *  value APE8865NL-32-HF-3  Reference: U
300mA Low Dropout Voltage Regulator, Fixed Output 3.2V, SOT-23; ki_keywords: 300mA LDO Regulator Fixed Positive; ki_fp_filters: SOT?23*; Footprint: Package_TO_SOT_SMD:SOT-23; Datasheet: http://www.tme.eu/fr/Document/ced3461ed31ea70a3c416fb648e0cde7/APE8865-3.pdf; Description_: 300mA Low Dropout Voltage Regulator, Fixed Output 3.2V, SOT-23
pins: 1 VO, 2 GND, 3 VI

## APE8865NL-33-HF-3
designator *  value APE8865NL-33-HF-3  Reference: U
300mA Low Dropout Voltage Regulator, Fixed Output 3.3V, SOT-23; ki_keywords: 300mA LDO Regulator Fixed Positive; ki_fp_filters: SOT?23*; Footprint: Package_TO_SOT_SMD:SOT-23; Datasheet: http://www.tme.eu/fr/Document/ced3461ed31ea70a3c416fb648e0cde7/APE8865-3.pdf; Description_: 300mA Low Dropout Voltage Regulator, Fixed Output 3.3V, SOT-23
pins: 1 VO, 2 GND, 3 VI

## APE8865NR-12-HF-3
designator *  value APE8865NR-12-HF-3  Reference: U
300mA Low Dropout Voltage Regulator, Fixed Output 1.2V, SOT-23; ki_keywords: 300mA LDO Regulator Fixed Positive; ki_fp_filters: SOT?23*; Footprint: Package_TO_SOT_SMD:SOT-23; Datasheet: http://www.tme.eu/fr/Document/ced3461ed31ea70a3c416fb648e0cde7/APE8865-3.pdf; Description_: 300mA Low Dropout Voltage Regulator, Fixed Output 1.2V, SOT-23
pins: 1 VI, 2 VO, 3 GND

## APE8865NR-15-HF-3
designator *  value APE8865NR-15-HF-3  Reference: U
300mA Low Dropout Voltage Regulator, Fixed Output 1.5V, SOT-23; ki_keywords: 300mA LDO Regulator Fixed Positive; ki_fp_filters: SOT?23*; Footprint: Package_TO_SOT_SMD:SOT-23; Datasheet: http://www.tme.eu/fr/Document/ced3461ed31ea70a3c416fb648e0cde7/APE8865-3.pdf; Description_: 300mA Low Dropout Voltage Regulator, Fixed Output 1.5V, SOT-23
pins: 1 VI, 2 VO, 3 GND

## APE8865NR-16-HF-3
designator *  value APE8865NR-16-HF-3  Reference: U
300mA Low Dropout Voltage Regulator, Fixed Output 1.6V, SOT-23; ki_keywords: 300mA LDO Regulator Fixed Positive; ki_fp_filters: SOT?23*; Footprint: Package_TO_SOT_SMD:SOT-23; Datasheet: http://www.tme.eu/fr/Document/ced3461ed31ea70a3c416fb648e0cde7/APE8865-3.pdf; Description_: 300mA Low Dropout Voltage Regulator, Fixed Output 1.6V, SOT-23
pins: 1 VI, 2 VO, 3 GND

## APE8865NR-17-HF-3
designator *  value APE8865NR-17-HF-3  Reference: U
300mA Low Dropout Voltage Regulator, Fixed Output 1.7V, SOT-23; ki_keywords: 300mA LDO Regulator Fixed Positive; ki_fp_filters: SOT?23*; Footprint: Package_TO_SOT_SMD:SOT-23; Datasheet: http://www.tme.eu/fr/Document/ced3461ed31ea70a3c416fb648e0cde7/APE8865-3.pdf; Description_: 300mA Low Dropout Voltage Regulator, Fixed Output 1.7V, SOT-23
pins: 1 VI, 2 VO, 3 GND

## APE8865NR-18-HF-3
designator *  value APE8865NR-18-HF-3  Reference: U
300mA Low Dropout Voltage Regulator, Fixed Output 1.8V, SOT-23; ki_keywords: 300mA LDO Regulator Fixed Positive; ki_fp_filters: SOT?23*; Footprint: Package_TO_SOT_SMD:SOT-23; Datasheet: http://www.tme.eu/fr/Document/ced3461ed31ea70a3c416fb648e0cde7/APE8865-3.pdf; Description_: 300mA Low Dropout Voltage Regulator, Fixed Output 1.8V, SOT-23
pins: 1 VI, 2 VO, 3 GND

## APE8865NR-19-HF-3
designator *  value APE8865NR-19-HF-3  Reference: U
300mA Low Dropout Voltage Regulator, Fixed Output 1.9V, SOT-23; ki_keywords: 300mA LDO Regulator Fixed Positive; ki_fp_filters: SOT?23*; Footprint: Package_TO_SOT_SMD:SOT-23; Datasheet: http://www.tme.eu/fr/Document/ced3461ed31ea70a3c416fb648e0cde7/APE8865-3.pdf; Description_: 300mA Low Dropout Voltage Regulator, Fixed Output 1.9V, SOT-23
pins: 1 VI, 2 VO, 3 GND

## APE8865NR-20-HF-3
designator *  value APE8865NR-20-HF-3  Reference: U
300mA Low Dropout Voltage Regulator, Fixed Output 2.0V, SOT-23; ki_keywords: 300mA LDO Regulator Fixed Positive; ki_fp_filters: SOT?23*; Footprint: Package_TO_SOT_SMD:SOT-23; Datasheet: http://www.tme.eu/fr/Document/ced3461ed31ea70a3c416fb648e0cde7/APE8865-3.pdf; Description_: 300mA Low Dropout Voltage Regulator, Fixed Output 2.0V, SOT-23
pins: 1 VI, 2 VO, 3 GND

## APE8865NR-21-HF-3
designator *  value APE8865NR-21-HF-3  Reference: U
300mA Low Dropout Voltage Regulator, Fixed Output 2.1V, SOT-23; ki_keywords: 300mA LDO Regulator Fixed Positive; ki_fp_filters: SOT?23*; Footprint: Package_TO_SOT_SMD:SOT-23; Datasheet: http://www.tme.eu/fr/Document/ced3461ed31ea70a3c416fb648e0cde7/APE8865-3.pdf; Description_: 300mA Low Dropout Voltage Regulator, Fixed Output 2.1V, SOT-23
pins: 1 VI, 2 VO, 3 GND

## APE8865NR-22-HF-3
designator *  value APE8865NR-22-HF-3  Reference: U
300mA Low Dropout Voltage Regulator, Fixed Output 2.2V, SOT-23; ki_keywords: 300mA LDO Regulator Fixed Positive; ki_fp_filters: SOT?23*; Footprint: Package_TO_SOT_SMD:SOT-23; Datasheet: http://www.tme.eu/fr/Document/ced3461ed31ea70a3c416fb648e0cde7/APE8865-3.pdf; Description_: 300mA Low Dropout Voltage Regulator, Fixed Output 2.2V, SOT-23
pins: 1 VI, 2 VO, 3 GND

## APE8865NR-23-HF-3
designator *  value APE8865NR-23-HF-3  Reference: U
300mA Low Dropout Voltage Regulator, Fixed Output 2.3V, SOT-23; ki_keywords: 300mA LDO Regulator Fixed Positive; ki_fp_filters: SOT?23*; Footprint: Package_TO_SOT_SMD:SOT-23; Datasheet: http://www.tme.eu/fr/Document/ced3461ed31ea70a3c416fb648e0cde7/APE8865-3.pdf; Description_: 300mA Low Dropout Voltage Regulator, Fixed Output 2.3V, SOT-23
pins: 1 VI, 2 VO, 3 GND

## APE8865NR-24-HF-3
designator *  value APE8865NR-24-HF-3  Reference: U
300mA Low Dropout Voltage Regulator, Fixed Output 2.4V, SOT-23; ki_keywords: 300mA LDO Regulator Fixed Positive; ki_fp_filters: SOT?23*; Footprint: Package_TO_SOT_SMD:SOT-23; Datasheet: http://www.tme.eu/fr/Document/ced3461ed31ea70a3c416fb648e0cde7/APE8865-3.pdf; Description_: 300mA Low Dropout Voltage Regulator, Fixed Output 2.4V, SOT-23
pins: 1 VI, 2 VO, 3 GND

## APE8865NR-25-HF-3
designator *  value APE8865NR-25-HF-3  Reference: U
300mA Low Dropout Voltage Regulator, Fixed Output 2.5V, SOT-23; ki_keywords: 300mA LDO Regulator Fixed Positive; ki_fp_filters: SOT?23*; Footprint: Package_TO_SOT_SMD:SOT-23; Datasheet: http://www.tme.eu/fr/Document/ced3461ed31ea70a3c416fb648e0cde7/APE8865-3.pdf; Description_: 300mA Low Dropout Voltage Regulator, Fixed Output 2.5V, SOT-23
pins: 1 VI, 2 VO, 3 GND

## APE8865NR-26-HF-3
designator *  value APE8865NR-26-HF-3  Reference: U
300mA Low Dropout Voltage Regulator, Fixed Output 2.6V, SOT-23; ki_keywords: 300mA LDO Regulator Fixed Positive; ki_fp_filters: SOT?23*; Footprint: Package_TO_SOT_SMD:SOT-23; Datasheet: http://www.tme.eu/fr/Document/ced3461ed31ea70a3c416fb648e0cde7/APE8865-3.pdf; Description_: 300mA Low Dropout Voltage Regulator, Fixed Output 2.6V, SOT-23
pins: 1 VI, 2 VO, 3 GND

## APE8865NR-27-HF-3
designator *  value APE8865NR-27-HF-3  Reference: U
300mA Low Dropout Voltage Regulator, Fixed Output 2.7V, SOT-23; ki_keywords: 300mA LDO Regulator Fixed Positive; ki_fp_filters: SOT?23*; Footprint: Package_TO_SOT_SMD:SOT-23; Datasheet: http://www.tme.eu/fr/Document/ced3461ed31ea70a3c416fb648e0cde7/APE8865-3.pdf; Description_: 300mA Low Dropout Voltage Regulator, Fixed Output 2.7V, SOT-23
pins: 1 VI, 2 VO, 3 GND

## APE8865NR-28-HF-3
designator *  value APE8865NR-28-HF-3  Reference: U
300mA Low Dropout Voltage Regulator, Fixed Output 2.8V, SOT-23; ki_keywords: 300mA LDO Regulator Fixed Positive; ki_fp_filters: SOT?23*; Footprint: Package_TO_SOT_SMD:SOT-23; Datasheet: http://www.tme.eu/fr/Document/ced3461ed31ea70a3c416fb648e0cde7/APE8865-3.pdf; Description_: 300mA Low Dropout Voltage Regulator, Fixed Output 2.8V, SOT-23
pins: 1 VI, 2 VO, 3 GND

## APE8865NR-29-HF-3
designator *  value APE8865NR-29-HF-3  Reference: U
300mA Low Dropout Voltage Regulator, Fixed Output 2.9V, SOT-23; ki_keywords: 300mA LDO Regulator Fixed Positive; ki_fp_filters: SOT?23*; Footprint: Package_TO_SOT_SMD:SOT-23; Datasheet: http://www.tme.eu/fr/Document/ced3461ed31ea70a3c416fb648e0cde7/APE8865-3.pdf; Description_: 300mA Low Dropout Voltage Regulator, Fixed Output 2.9V, SOT-23
pins: 1 VI, 2 VO, 3 GND

## APE8865NR-30-HF-3
designator *  value APE8865NR-30-HF-3  Reference: U
300mA Low Dropout Voltage Regulator, Fixed Output 3.0V, SOT-23; ki_keywords: 300mA LDO Regulator Fixed Positive; ki_fp_filters: SOT?23*; Footprint: Package_TO_SOT_SMD:SOT-23; Datasheet: http://www.tme.eu/fr/Document/ced3461ed31ea70a3c416fb648e0cde7/APE8865-3.pdf; Description_: 300mA Low Dropout Voltage Regulator, Fixed Output 3.0V, SOT-23
pins: 1 VI, 2 VO, 3 GND

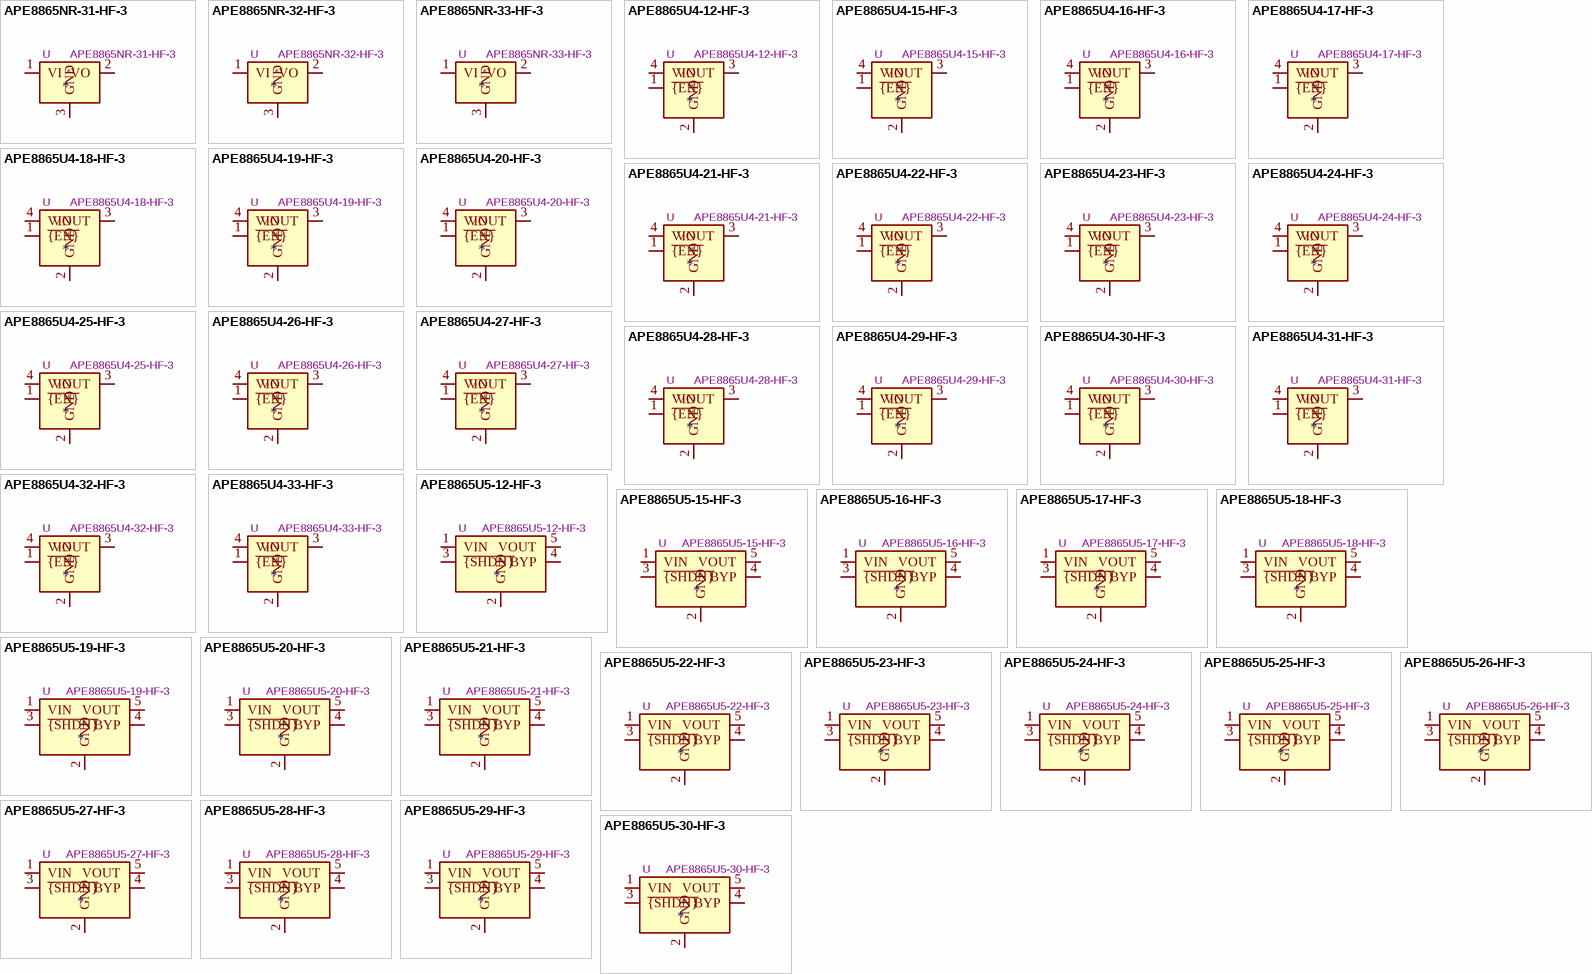
[diagram p5: symbols APE8865NR-31-HF-3 to APE8865U5-30-HF-3]

## APE8865NR-31-HF-3
designator *  value APE8865NR-31-HF-3  Reference: U
300mA Low Dropout Voltage Regulator, Fixed Output 3.1V, SOT-23; ki_keywords: 300mA LDO Regulator Fixed Positive; ki_fp_filters: SOT?23*; Footprint: Package_TO_SOT_SMD:SOT-23; Datasheet: http://www.tme.eu/fr/Document/ced3461ed31ea70a3c416fb648e0cde7/APE8865-3.pdf; Description_: 300mA Low Dropout Voltage Regulator, Fixed Output 3.1V, SOT-23
pins: 1 VI, 2 VO, 3 GND

## APE8865NR-32-HF-3
designator *  value APE8865NR-32-HF-3  Reference: U
300mA Low Dropout Voltage Regulator, Fixed Output 3.2V, SOT-23; ki_keywords: 300mA LDO Regulator Fixed Positive; ki_fp_filters: SOT?23*; Footprint: Package_TO_SOT_SMD:SOT-23; Datasheet: http://www.tme.eu/fr/Document/ced3461ed31ea70a3c416fb648e0cde7/APE8865-3.pdf; Description_: 300mA Low Dropout Voltage Regulator, Fixed Output 3.2V, SOT-23
pins: 1 VI, 2 VO, 3 GND

## APE8865NR-33-HF-3
designator *  value APE8865NR-33-HF-3  Reference: U
300mA Low Dropout Voltage Regulator, Fixed Output 3.3V, SOT-23; ki_keywords: 300mA LDO Regulator Fixed Positive; ki_fp_filters: SOT?23*; Footprint: Package_TO_SOT_SMD:SOT-23; Datasheet: http://www.tme.eu/fr/Document/ced3461ed31ea70a3c416fb648e0cde7/APE8865-3.pdf; Description_: 300mA Low Dropout Voltage Regulator, Fixed Output 3.3V, SOT-23
pins: 1 VI, 2 VO, 3 GND

## APE8865U4-12-HF-3
designator *  value APE8865U4-12-HF-3  Reference: U
300mA Low Dropout Voltage Regulator, Fixed Output 1.2V, SC-70-4; ki_keywords: 300mA LDO Regulator Fixed Positive; ki_fp_filters: *SC?70*; Footprint: Package_TO_SOT_SMD:SOT-343_SC-70-4; Datasheet: http://www.tme.eu/fr/Document/ced3461ed31ea70a3c416fb648e0cde7/APE8865-3.pdf; Description_: 300mA Low Dropout Voltage Regulator, Fixed Output 1.2V, SC-70-4
pins: 1 ~{{EN}}, 2 GND, 3 VOUT, 4 VIN

## APE8865U4-15-HF-3
designator *  value APE8865U4-15-HF-3  Reference: U
300mA Low Dropout Voltage Regulator, Fixed Output 1.5V, SC-70-4; ki_keywords: 300mA LDO Regulator Fixed Positive; ki_fp_filters: *SC?70*; Footprint: Package_TO_SOT_SMD:SOT-343_SC-70-4; Datasheet: http://www.tme.eu/fr/Document/ced3461ed31ea70a3c416fb648e0cde7/APE8865-3.pdf; Description_: 300mA Low Dropout Voltage Regulator, Fixed Output 1.5V, SC-70-4
pins: 1 ~{{EN}}, 2 GND, 3 VOUT, 4 VIN

## APE8865U4-16-HF-3
designator *  value APE8865U4-16-HF-3  Reference: U
300mA Low Dropout Voltage Regulator, Fixed Output 1.6V, SC-70-4; ki_keywords: 300mA LDO Regulator Fixed Positive; ki_fp_filters: *SC?70*; Footprint: Package_TO_SOT_SMD:SOT-343_SC-70-4; Datasheet: http://www.tme.eu/fr/Document/ced3461ed31ea70a3c416fb648e0cde7/APE8865-3.pdf; Description_: 300mA Low Dropout Voltage Regulator, Fixed Output 1.6V, SC-70-4
pins: 1 ~{{EN}}, 2 GND, 3 VOUT, 4 VIN

## APE8865U4-17-HF-3
designator *  value APE8865U4-17-HF-3  Reference: U
300mA Low Dropout Voltage Regulator, Fixed Output 1.7V, SC-70-4; ki_keywords: 300mA LDO Regulator Fixed Positive; ki_fp_filters: *SC?70*; Footprint: Package_TO_SOT_SMD:SOT-343_SC-70-4; Datasheet: http://www.tme.eu/fr/Document/ced3461ed31ea70a3c416fb648e0cde7/APE8865-3.pdf; Description_: 300mA Low Dropout Voltage Regulator, Fixed Output 1.7V, SC-70-4
pins: 1 ~{{EN}}, 2 GND, 3 VOUT, 4 VIN

## APE8865U4-18-HF-3
designator *  value APE8865U4-18-HF-3  Reference: U
300mA Low Dropout Voltage Regulator, Fixed Output 1.8V, SC-70-4; ki_keywords: 300mA LDO Regulator Fixed Positive; ki_fp_filters: *SC?70*; Footprint: Package_TO_SOT_SMD:SOT-343_SC-70-4; Datasheet: http://www.tme.eu/fr/Document/ced3461ed31ea70a3c416fb648e0cde7/APE8865-3.pdf; Description_: 300mA Low Dropout Voltage Regulator, Fixed Output 1.8V, SC-70-4
pins: 1 ~{{EN}}, 2 GND, 3 VOUT, 4 VIN

## APE8865U4-19-HF-3
designator *  value APE8865U4-19-HF-3  Reference: U
300mA Low Dropout Voltage Regulator, Fixed Output 1.9V, SC-70-4; ki_keywords: 300mA LDO Regulator Fixed Positive; ki_fp_filters: *SC?70*; Footprint: Package_TO_SOT_SMD:SOT-343_SC-70-4; Datasheet: http://www.tme.eu/fr/Document/ced3461ed31ea70a3c416fb648e0cde7/APE8865-3.pdf; Description_: 300mA Low Dropout Voltage Regulator, Fixed Output 1.9V, SC-70-4
pins: 1 ~{{EN}}, 2 GND, 3 VOUT, 4 VIN

## APE8865U4-20-HF-3
designator *  value APE8865U4-20-HF-3  Reference: U
300mA Low Dropout Voltage Regulator, Fixed Output 2.0V, SC-70-4; ki_keywords: 300mA LDO Regulator Fixed Positive; ki_fp_filters: *SC?70*; Footprint: Package_TO_SOT_SMD:SOT-343_SC-70-4; Datasheet: http://www.tme.eu/fr/Document/ced3461ed31ea70a3c416fb648e0cde7/APE8865-3.pdf; Description_: 300mA Low Dropout Voltage Regulator, Fixed Output 2.0V, SC-70-4
pins: 1 ~{{EN}}, 2 GND, 3 VOUT, 4 VIN

## APE8865U4-21-HF-3
designator *  value APE8865U4-21-HF-3  Reference: U
300mA Low Dropout Voltage Regulator, Fixed Output 2.1V, SC-70-4; ki_keywords: 300mA LDO Regulator Fixed Positive; ki_fp_filters: *SC?70*; Footprint: Package_TO_SOT_SMD:SOT-343_SC-70-4; Datasheet: http://www.tme.eu/fr/Document/ced3461ed31ea70a3c416fb648e0cde7/APE8865-3.pdf; Description_: 300mA Low Dropout Voltage Regulator, Fixed Output 2.1V, SC-70-4
pins: 1 ~{{EN}}, 2 GND, 3 VOUT, 4 VIN

## APE8865U4-22-HF-3
designator *  value APE8865U4-22-HF-3  Reference: U
300mA Low Dropout Voltage Regulator, Fixed Output 2.2V, SC-70-4; ki_keywords: 300mA LDO Regulator Fixed Positive; ki_fp_filters: *SC?70*; Footprint: Package_TO_SOT_SMD:SOT-343_SC-70-4; Datasheet: http://www.tme.eu/fr/Document/ced3461ed31ea70a3c416fb648e0cde7/APE8865-3.pdf; Description_: 300mA Low Dropout Voltage Regulator, Fixed Output 2.2V, SC-70-4
pins: 1 ~{{EN}}, 2 GND, 3 VOUT, 4 VIN